# Altium schematic symbol library diplom.schlib: 25 symbols
Pins are listed as number, name and electrical type; pins without a type are passive.

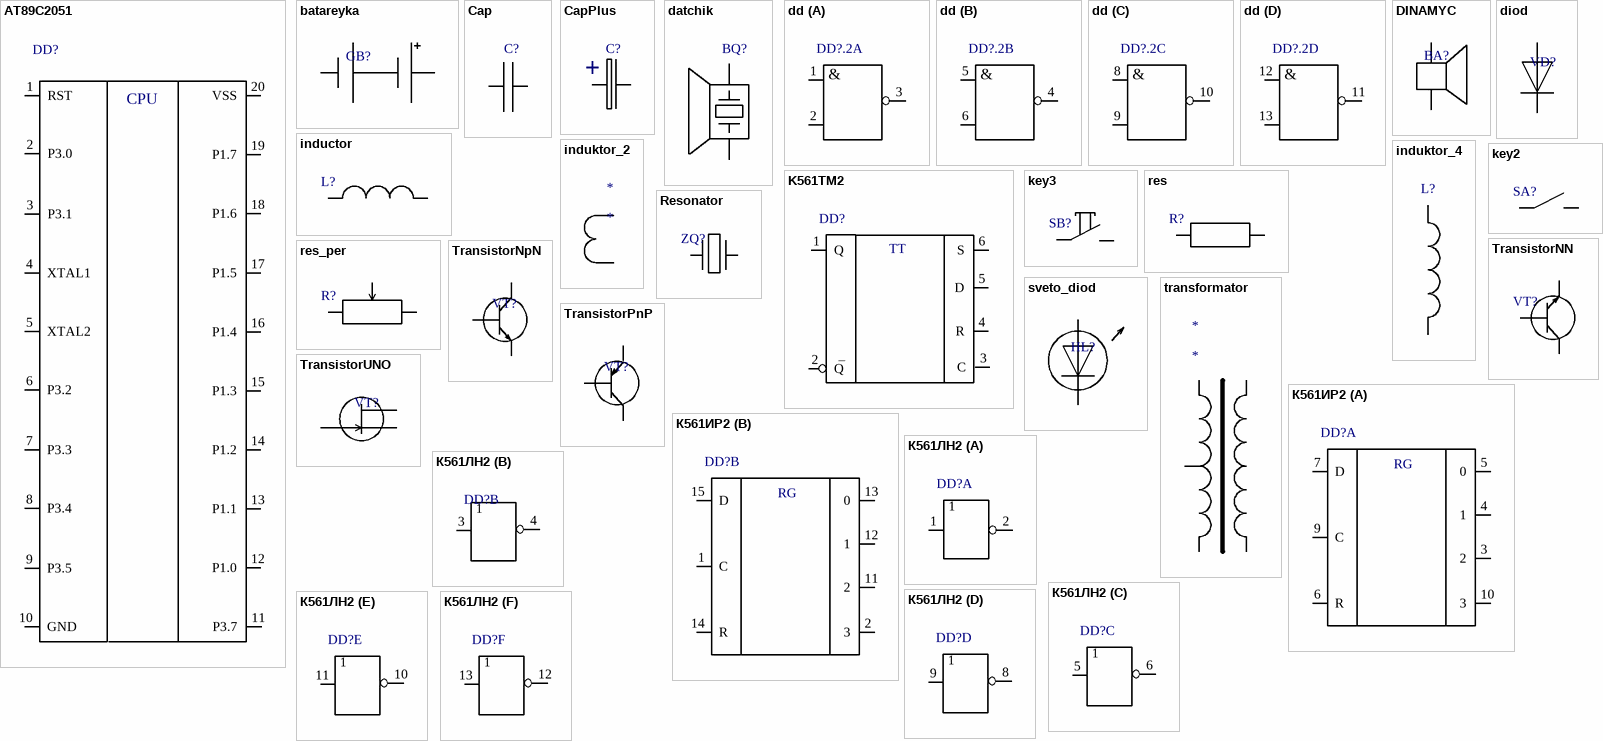
[diagram p0: symbols AT89C2051 to К561ЛН2]

## AT89C2051
designator DD?
footprint DD4
pins: 1 RST, 2 P3.0, 3 P3.1, 4 XTAL1, 5 XTAL2, 6 P3.2, 7 P3.3, 8 P3.4, 9 P3.5, 10 GND, 11 P3.7, 12 P1.0, 13 P1.1, 14 P1.2, 15 P1.3, 16 P1.4, 17 P1.5, 18 P1.6, 19 P1.7, 20 VSS
text: CPU

## batareyka
designator GB?  (value not drawn)
footprint BATAREIKA
pins: N, P

## Cap
designator C?
footprint SMD 0603
pins: 1 A, 2 B

## CapPlus
designator C?
footprint cap
pins: 1 A, 2 B
text: +

## datchik
designator BQ?  (value not drawn)
footprint ZP-1
pins: 1, 2

## dd
designator DD?.2  (value not drawn)
footprint DIP14
part A pins: 1, 2, 3
part B pins: 4, 5, 6
part C pins: 8, 9, 10
part D pins: 11, 12, 13
part A text: &
part B text: &
part C text: &
part D text: &

## DINAMYC
designator BA?
footprint DINAMIK
pins: N, P

## diod
designator VD?  (value not drawn)
footprint res
pins: 1, 2

## inductor
designator L?
footprint inductor
pins: 1 A, 2 B

## induktor_2
designator *
footprint INDUCTOR_LOW
pins: 1, 2

## induktor_4
designator L?  (value not drawn)
footprint inductor
pins: 1, 2

## K561TM2
designator DD?  (value not drawn)
footprint DD2
pins: 1 Q, 2 Q, 3 C, 4 R, 5 D, 6 S
text: TT; –

## key2
designator SA?  (value not drawn)
footprint switch
pins: 1 A, 2 B

## key3
designator SB?
footprint BUTTON
pins: 1 A, 2 B

## res
designator R?
footprint SMD 0603
pins: 1 A, 2 B

## res_per
designator R?
footprint 21-0051H
pins: 1 A, 2 B, 3 C

## Resonator
designator ZQ?
footprint ZQ
pins: 1, 2

## sveto_diod
designator HL?  (value not drawn)
footprint HL
pins: 1, 2

## transformator
designator *
footprint TRANSFORMATOR4
pins: 1, 2, 3, 4, 5

## TransistorNN
designator VT?  (value not drawn)
footprint Transistor
pins: 1 A, 2 B, 3 C

## TransistorNpN
designator VT?
footprint Transistor
pins: 1 A, 2 B, 3 C

## TransistorPnP
designator VT?
footprint Transistor
pins: 1 A, 2 B, 3 C

## TransistorUNO
designator VT?
footprint Transistor
pins: 1 A, 2 B, 3 C

## К561ИР2
designator DD?  (value not drawn)
footprint DIP16
part A pins: 3 2, 4 1, 5 0, 6 R, 7 D, 9 C, 10 3
part B pins: 1 C, 2 3, 11 2, 12 1, 13 0, 14 R, 15 D
part A text: RG
part B text: RG

## К561ЛН2
designator DD?  (value not drawn)
footprint DIP14
part A pins: 1, 2
part B pins: 3, 4
part C pins: 5, 6
part D pins: 8, 9
part E pins: 10, 11
part F pins: 12, 13